# EAGLE library part USB3075-30-A (library USB3075-30-A)
GCT (GLOBAL CONNECTOR TECHNOLOGY) - USB3075-30-A - USB Connector, Micro USB Type B, USB 2.0, Receptacle, 5 Ways, Surface Mount, Right Angle Source: Datasheet <https://componentsearchengine.com/Datasheets/2/USB3075-30-A.pdf>
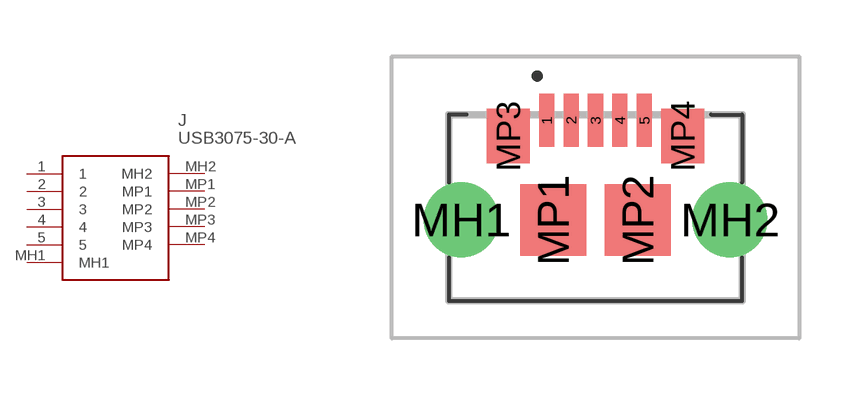
[diagram p0: symbol with the pads of USB307530A; footprint USB307530A]

Designator prefix J

## USB3075-30-A (Description: GCT (GLOBAL CONNECTOR TECHNOLOGY) - USB3075-30-A - USB Connector, Micro USB Type B, USB 2.0, Receptacle, 5 Ways, Surface Mount, Right Angle; Height: 2.7mm; Manufacturer_Name: GCT (GLOBAL CONNECTOR TECHNOLOGY); Manufacturer_Part_Number: USB3075-30-A; Mouser_Part_Number: 640-USB3075-30-A; Mouser_Price-Stock: https://www.mouser.co.uk/ProductDetail/GCT/USB3075-30-A?qs=KUoIvG%2F9IlbGMJplbp1ybA%3D%3D)  [USB307530A]
1  1
2  2
3  3
4  4
5  5
MH1  MH1
MH2  MH2
MP1  MP1
MP2  MP2
MP3  MP3
MP4  MP4

## Footprint USB307530A (pad centres in mm)
USB3075-30-A-4
smd 0.4 x 1.4: 1 -1.3,2.65; 2 -0.65,2.65; 3 0,2.65; 4 0.65,2.65; 5 1.3,2.65
drill 1.329 pad 1.85: MH1 -3.575,0; MH2 3.575,0
smd 1.75 x 1.9: MP1 -1.125,0; MP2 1.125,0
smd 1.15 x 1.45: MP3 -2.32,2.23; MP4 2.32,2.23